# EAGLE library part LNK562-564 (library power_integrations)
LinkSwitch-LP comprises a 700 V power MOSFET switch with a power supply controller on the same die. Unlike conventional PWM (pulse width modulation) controllers, it uses a simple ON/OFF control to regulate the output voltage. The controller consists of an oscillator, feedback (sense and logic) circuit, 5.8 V regulator, BYPASS pin undervoltage circuit, over-temperature protection, frequency jittering, current limit circuit, and leading edge blanking.
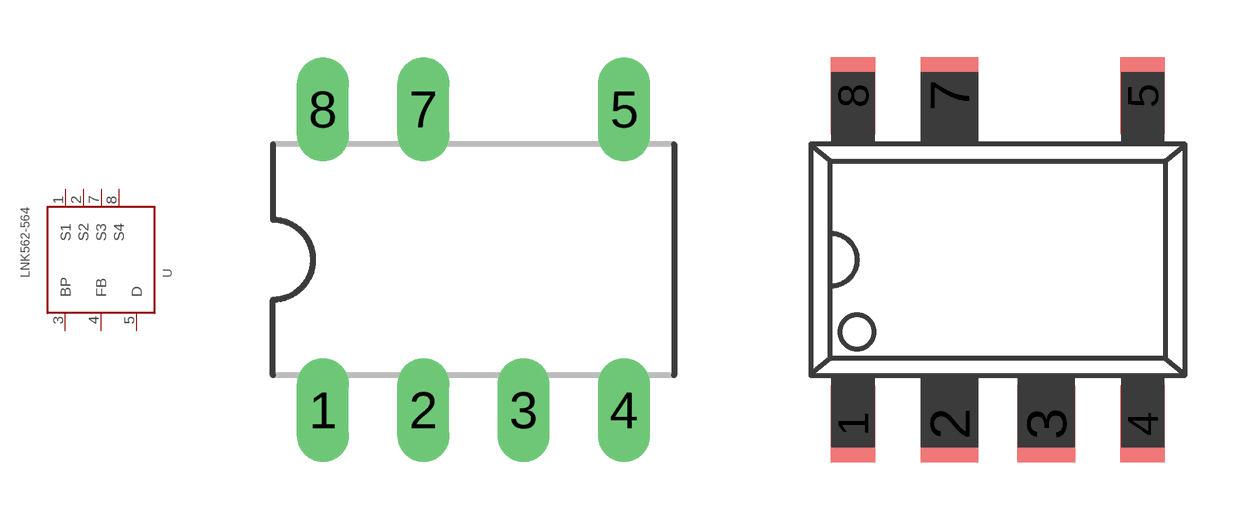
[diagram p19: symbol with the pads of DIP-8B; footprints DIP-8B, DIP8B_SMD(G_PACKAGE)]

Designator prefix -

## LNK562-564  [DIP-8B]
1  S1
2  S2
3  BP
4  FB
5  D
7  S3
8  S4

## LNK562-564DIP8B_SMD  [DIP8B_SMD(G_PACKAGE)]
Pads as for DIP-8B

## LNK562-564SO8-C  [SO8-C(D_PACKAGE)]
1  BP
2  FB
4  D
5  S1
6  S2
7  S3
8  S4

## Footprint DIP-8B (pad centres in mm)
Dual In Line Package
drill 0.813 long: 1 -3.81,-3.81; 2 -1.27,-3.81; 3 1.27,-3.81; 4 3.81,-3.81; 5 3.81,3.81; 7 -1.27,3.81; 8 -3.81,3.81

## Footprint DIP8B_SMD(G_PACKAGE) (pad centres in mm)
smd 1.168 x 2.032: 1 -3.81,-4.32; 4 3.81,-4.32; 5 3.81,4.32; 8 -3.81,4.32
smd 1.524 x 2.032: 2 -1.27,-4.32; 3 1.27,-4.32; 7 -1.27,4.32

## Footprint SO8-C(D_PACKAGE) (pad centres in mm)
SMALL OUTLINE INTEGRATED CIRCUIT body 3.9 mm/JEDEC MS-012AA
smd 0.6 x 2.2: 1 -1.905,-2.6; 2 -0.635,-2.6; 4 1.905,-2.6; 5 1.905,2.6; 6 0.635,2.6; 7 -0.635,2.6; 8 -1.905,2.6